# Altium footprint library SOT-143.PcbLib: 1 footprints
Each footprint in its own frame and in the unit in brackets; x right, y up, seen from the top. Pads: shape width x height; smd on the part's side, far side on the other; paste and mask are expansions set on the pad; w line width, h text height; cw(c..) or ccw(c..) is an arc to the next point about the centre after c.
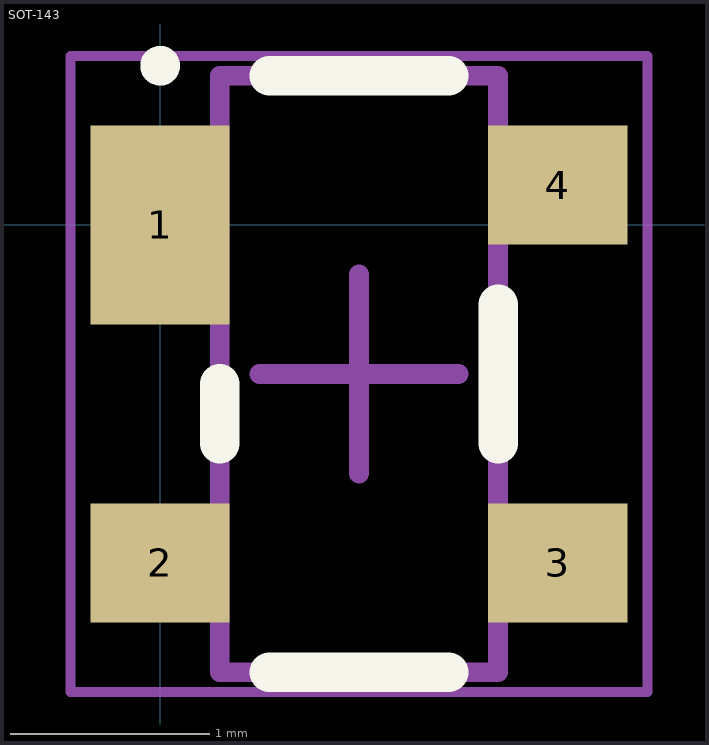
[diagram p0: the footprint, top view; thin cyan lines are the x and y axes]

## SOT-143 [mm]
pads (4):
  rect 0.7x1 smd: 1(0,0)
  rect 0.7x0.6 smd: 2(0,-1.7) 3(2,-1.7) 4(2,0.2)
Top Overlay:
  circle w0.1: c0,0.8 r0.05
  lines w0.2: 0.3,-1.1 0.3,-0.8 ; 0.55,-2.25 1.45,-2.25 ; 0.55,0.75 1.45,0.75 ; 1.7,-1.1 1.7,-0.4
Mechanical 13:
  lines w0.1: 0.3,-2.25 0.3,0.75 1.7,0.75 1.7,-2.25 0.3,-2.25
Mechanical 15:
  lines w0.05: -0.45,-2.35 -0.45,0.85 2.45,0.85 2.45,-2.35 -0.45,-2.35
  lines w0.1: 0.5,-0.75 1.5,-0.75 ; 1,-1.25 1,-0.25
3D body "SOT-143.STEP": height 1, standoff 0, extent -0.21,-2.21 2.21,0.71